# EAGLE library part RGB_LED_6PIN (library MlabPaja)
RGB LED 5mm 6pin available at www.partco.fi. Green Anode is weeker than Blue Anode.
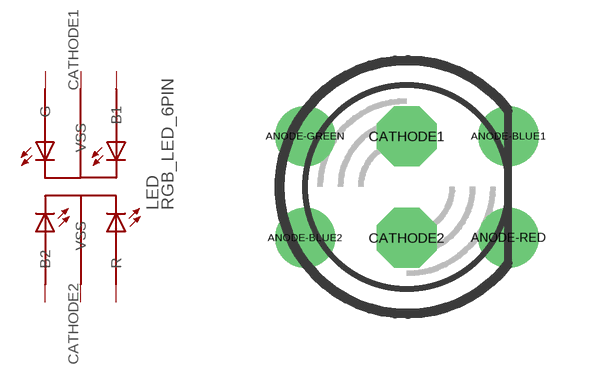
[diagram p12: symbol with the pads of RGB_LED_6PIN_5MM; footprint RGB_LED_6PIN_5MM]

Designator prefix LED

## RGB_LED_6PIN  [RGB_LED_6PIN_5MM]
ANODE-BLUE1  B1  pas
ANODE-BLUE2  B2  pas
ANODE-GREEN  G  pas
ANODE-RED  R  pas
CATHODE1  VSS  pas
CATHODE2  VSS  pas

## Footprint RGB_LED_6PIN_5MM (pad centres in mm)
LED 5 mm, round
drill 1 round: ANODE-BLUE1 2.54,1.27; ANODE-BLUE2 -2.54,-1.27; ANODE-GREEN -2.54,1.27; ANODE-RED 2.54,-1.27
drill 1 octagon: CATHODE1 0,1.27; CATHODE2 0,-1.27